# Altium footprint library TE-1734248-5.PcbLib: 1 footprints
Each footprint in its own frame and in the unit in brackets; x right, y up, seen from the top. Pads: shape width x height; smd on the part's side, far side on the other; paste and mask are expansions set on the pad; w line width, h text height; cw(c..) or ccw(c..) is an arc to the next point about the centre after c.
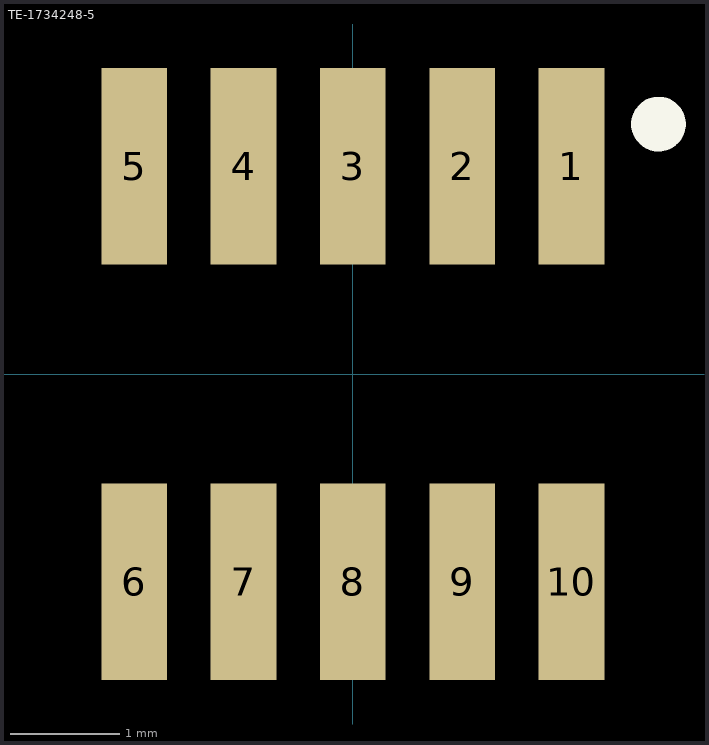
[diagram p0: the footprint, top view; thin cyan lines are the x and y axes]

## TE-1734248-5 [mm]
pads (10):
  rect 0.6x1.8 smd: 1(2,1.9) 2(1,1.9) 3(0,1.9) 4(-1,1.9) 5(-2,1.9) 6(-2,-1.9) 7(-1,-1.9) 8(0,-1.9) 9(1,-1.9) 10(2,-1.9)
Top Overlay:
  circle w0.25: c2.796,2.286 r0.125
3D body: height 5.67, standoff -0.01, extent -6.2,-2.4 6.2,2.45